# EAGLE library part XFMR_FX40 (library wheat)
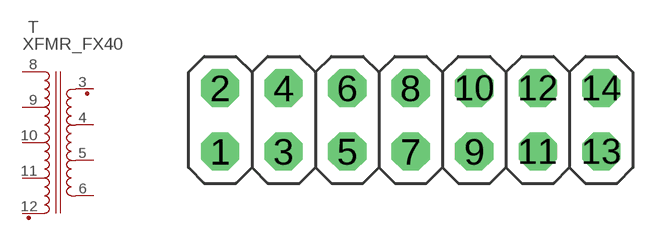
[diagram p207: symbol with the pads of HDR7X2; footprint HDR7X2]

Designator prefix T

## XFMR_FX40  [HDR7X2]
3  S16  pas
4  S8  pas
5  S4  pas
6  S0  pas
8  P1  pas
9  S1  pas
10  B  pas
11  S2  pas
12  P2  pas

## Footprint HDR7X2 (pad centres in mm)
drill 1.016 octagon: 1 -7.62,-1.27; 2 -7.62,1.27; 3 -5.08,-1.27; 4 -5.08,1.27; 5 -2.54,-1.27; 6 -2.54,1.27; 7 0,-1.27; 8 0,1.27; 9 2.54,-1.27; 10 2.54,1.27; 11 5.08,-1.27; 12 5.08,1.27; 13 7.62,-1.27; 14 7.62,1.27